# Altium footprint library CAPC1320X76N.PcbLib: 1 footprints
Each footprint in its own frame and in the unit in brackets; x right, y up, seen from the top. Pads: shape width x height; smd on the part's side, far side on the other; paste and mask are expansions set on the pad; w line width, h text height; cw(c..) or ccw(c..) is an arc to the next point about the centre after c.
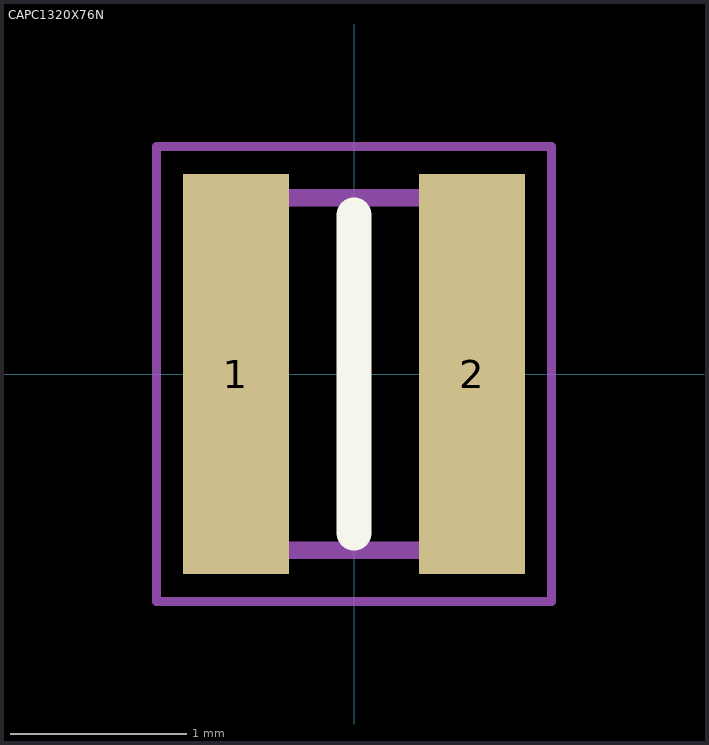
[diagram p0: the footprint, top view; thin cyan lines are the x and y axes]

## CAPC1320X76N [mm]
pads (2):
  rect 0.6x2.27 smd: 1(-0.67,0) 2(0.67,0)
Top Overlay:
  lines w0.2: 0,-0.9 0,0.9
Mechanical 15:
  lines w0.1: -0.635,-1 0.635,-1 0.635,1 -0.635,1 -0.635,-1
Mechanical 20:
  lines w0.05: -1.12,-1.29 1.12,-1.29 1.12,1.29 -1.12,1.29 -1.12,-1.29